# EAGLE library part CONNECTOR-6_?_* (library HyTechDevices_temp)
6 Pin Connector
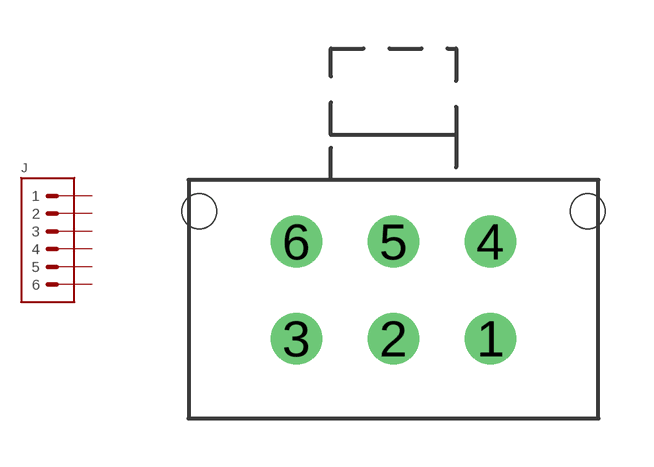
[diagram p0: symbol with the pads of MOLEX_MICROFIT_PTH_VERTICAL_06_DUAL; footprint MOLEX_MICROFIT_PTH_VERTICAL_06_DUAL]

Designator prefix J

## CONNECTOR-6_MF_T_V_ (MANUFACTURER: MOLEX; MPN: 430450614)  [MOLEX_MICROFIT_PTH_VERTICAL_06_DUAL]
1  1  pas
2  2  pas
3  3  pas
4  4  pas
5  5  pas
6  6  pas

## Footprint MOLEX_MICROFIT_PTH_VERTICAL_06_DUAL (pad centres in mm)
6 Pin Micro-Fit Vertical Header, Through-Hole, Dual Row Part <https://www.molex.com/molex/products/part-detail/pcb_headers/0430450614> Footprint <https://www.molex.com/pdm_docs/sd/430450614_sd.pdf> Plug Size <https://www.molex.com/pdm_docs/sd/430250600_sd.pdf>
drill 1.067: 1 2.997,-2.997; 2 0,-2.997; 3 -2.997,-2.997; 4 2.997,0; 5 0,0; 6 -2.997,0
hole 1.067 at 5.994,0.94
hole 1.067 at -5.994,0.94